# EAGLE library part MB82B005PJ (library micro-fujitsu)
MICROCONTROLLER/MEMORY DEVICE
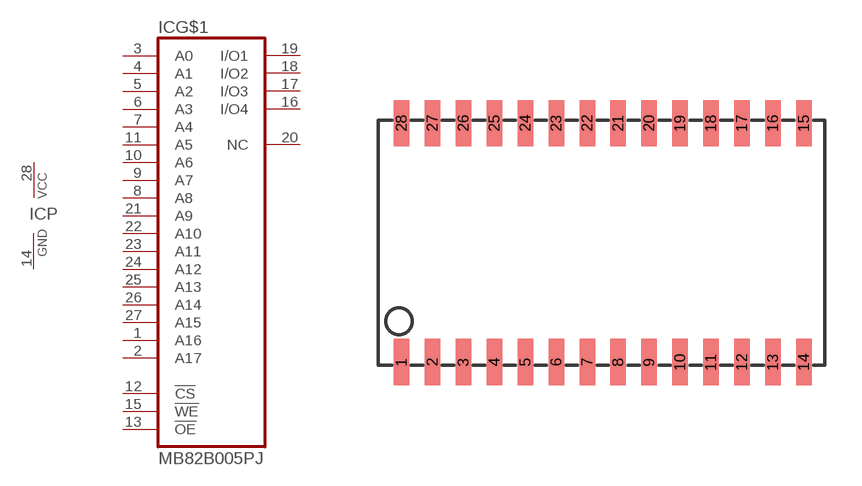
[diagram p34: symbol with the pads of SOJ28-4; footprint SOJ28-4]

Designator prefix IC; gates G$1=MB82B005 P=VCC-GND

## MB82B005PJ (OC_FARNELL: unknown; OC_NEWARK: unknown)  [SOJ28-4]
1  G$1:A16  in
2  G$1:A17  in
3  G$1:A0  in
4  G$1:A1  in
5  G$1:A2  in
6  G$1:A3  in
7  G$1:A4  in
8  G$1:A8  in
9  G$1:A7  in
10  G$1:A6  in
11  G$1:A5  in
12  G$1:!CS  in
13  G$1:!OE  in
14  P:GND  pwr
15  G$1:!WE  in
16  G$1:I/O4  nc
17  G$1:I/O3
18  G$1:I/O2
19  G$1:I/O1
20  G$1:NC  nc
21  G$1:A9  in
22  G$1:A10  in
23  G$1:A11  in
24  G$1:A12  in
25  G$1:A13  in
26  G$1:A14  in
27  G$1:A15  in
28  P:VCC  pwr

## Footprint SOJ28-4 (pad centres in mm)
Small Outline J-Bend
smd 0.635 x 1.905: 1 -8.255,-4.902; 2 -6.985,-4.902; 3 -5.715,-4.902; 4 -4.445,-4.902; 5 -3.175,-4.902; 6 -1.905,-4.902; 7 -0.635,-4.902; 8 0.635,-4.902; 9 1.905,-4.902; 10 3.175,-4.902; 11 4.445,-4.902; 12 5.715,-4.902; 13 6.985,-4.902; 14 8.255,-4.902; 15 8.255,4.902; 16 6.985,4.902; 17 5.715,4.902; 18 4.445,4.902; 19 3.175,4.902; 20 1.905,4.902; 21 0.635,4.902; 22 -0.635,4.902; 23 -1.905,4.902; 24 -3.175,4.902; 25 -4.445,4.902; 26 -5.715,4.902; 27 -6.985,4.902; 28 -8.255,4.902